# EAGLE library part 74HCT123D (library NXP_By_element14_Batch_1)
Dual non-retriggerable monostable multivibrator with reset
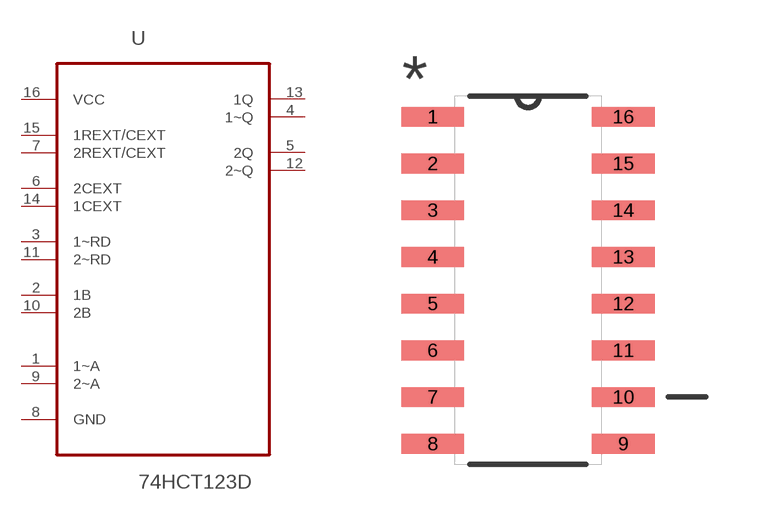
[diagram p169: symbol with the pads of SOIC127P600X175-16N; footprint SOIC127P600X175-16N]

Designator prefix U

## 74HCT123D (MPN: 74HCT123D; OC_FARNELL: 1085306; OC_NEWARK: 99K0547; PACKAGE: SOIC-16; SUPPLIER: NXP)  [SOIC127P600X175-16N]
1  1~A  in
2  1B  in
3  1~RD  in
4  1~Q  out
5  2Q  out
6  2CEXT  pas
7  2REXT/CEXT  pas
8  GND  pas
9  2~A  in
10  2B  in
11  2~RD  in
12  2~Q  out
13  1Q  out
14  1CEXT  pas
15  1REXT/CEXT  pas
16  VCC  pwr

## Footprint SOIC127P600X175-16N (pad centres in mm)
smd 1.702 x 0.533: 1 -2.591,4.445; 2 -2.591,3.175; 3 -2.591,1.905; 4 -2.591,0.635; 5 -2.591,-0.635; 6 -2.591,-1.905; 7 -2.591,-3.175; 8 -2.591,-4.445; 9 2.591,-4.445; 10 2.591,-3.175; 11 2.591,-1.905; 12 2.591,-0.635; 13 2.591,0.635; 14 2.591,1.905; 15 2.591,3.175; 16 2.591,4.445